# Altium integrated library Linear Technology Power Management Hot Swap Controllers.IntLib: 992 symbols (part 89 of 93)
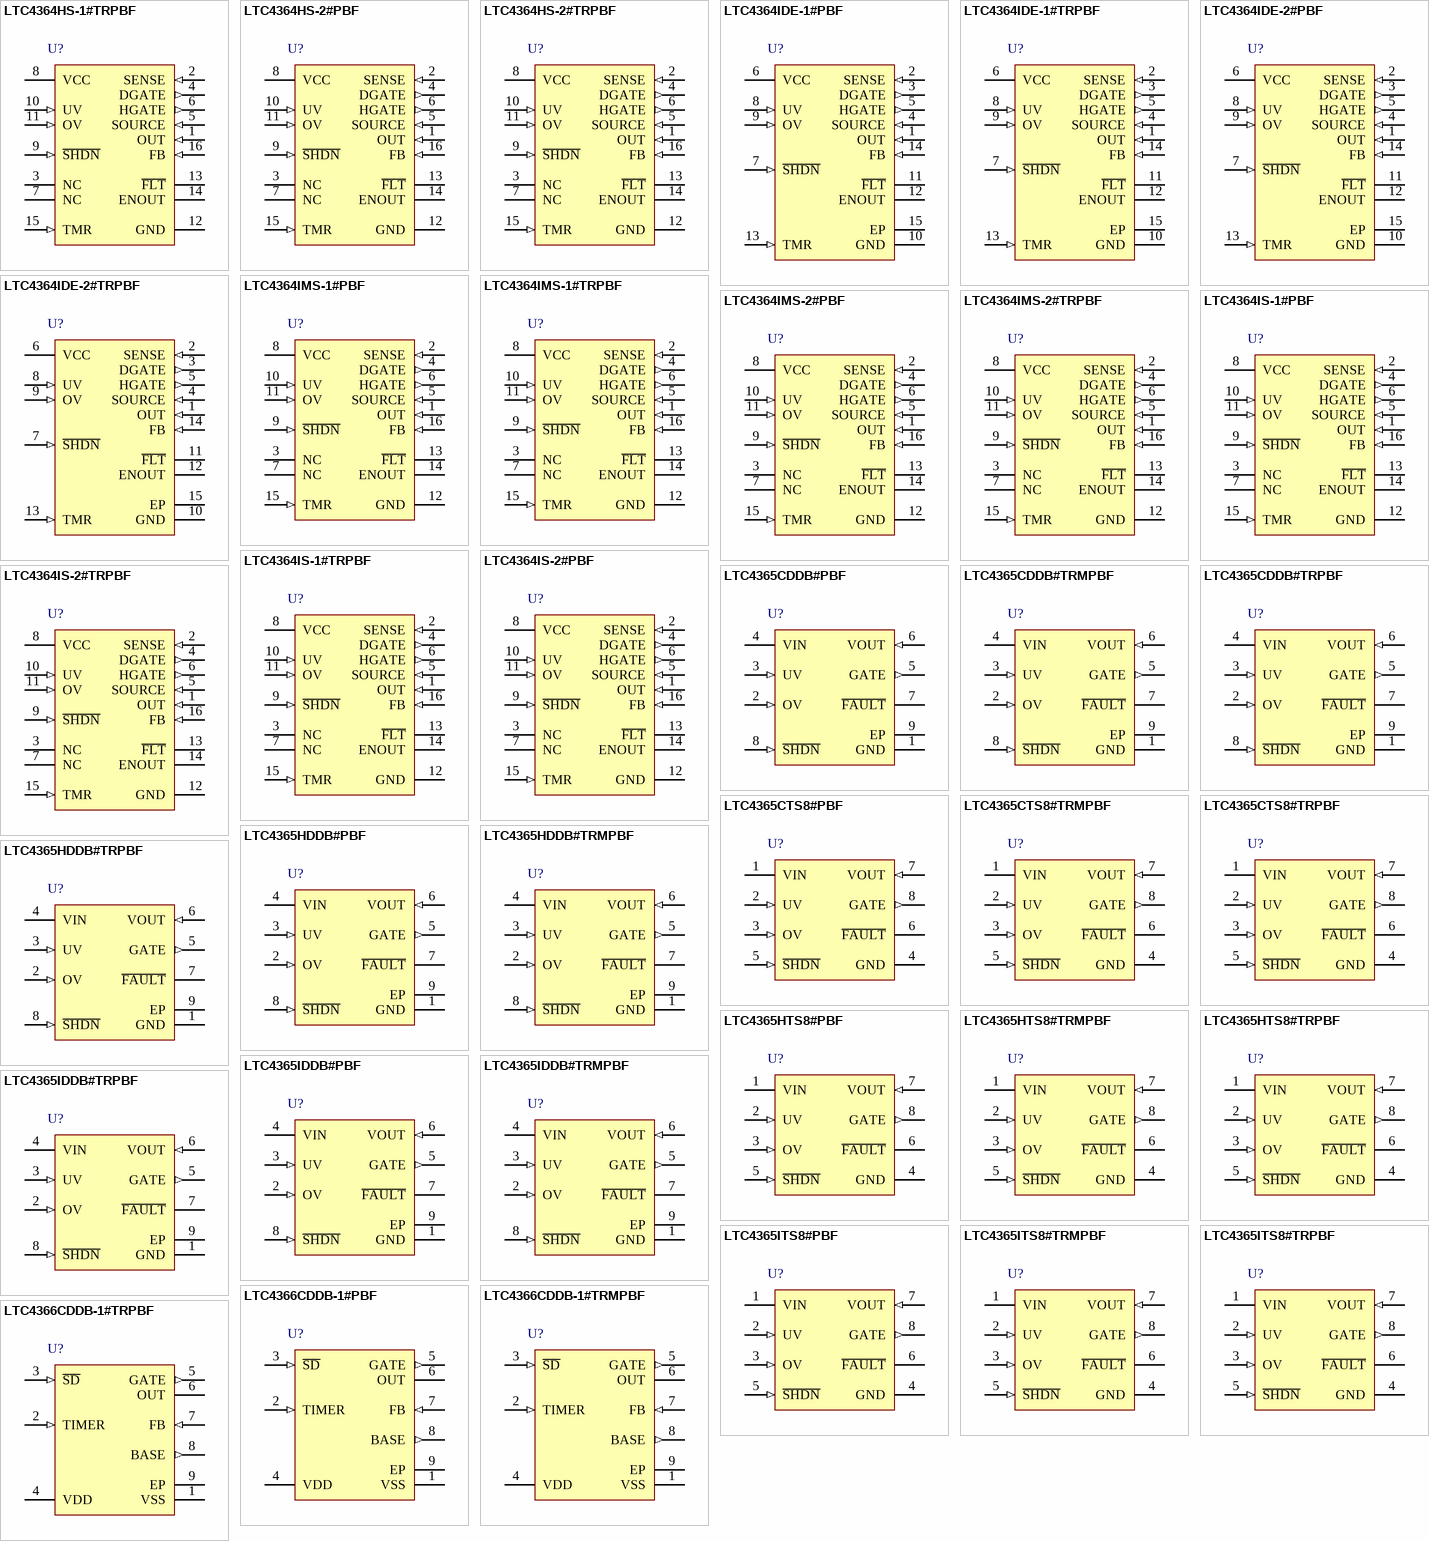
[diagram p125: symbols LTC4364HS-1#TRPBF to LTC4366CDDB-1#TRPBF]

## LTC4364IS-1#TRPBF
designator U?
Surge Stopper with Ideal Diode, 4 to 80 V Vin, 16-pin SOP (S-16), -40 to 85 degC, Pb-Free, Tape and Reel; Manufacturer: Linear Technology; PartNumber: LTC4364IS-1#TRPBF; Circuit Breaker Accuracy(%): 10; Circuit Breaker Threshold: 50 mV; Circuit Breakers(#): 1; Extended Temp: C, I, H; Fast Comparator: no; Vin Range: 4 to 80 V; PackageVersion: Rev. G, 05/2012; PackageReference: S-16; PackageDescription: 16-Pin Plastic Small Outline, Body 9.9 x 3.9 mm, Pitch 1.27 mm; Supplier 1: Digi-Key; Supplier Part Number 1: LTC4364IS-1#TRPBF-ND; Supplier 2: Newark; Supplier Part Number 2: 27W9492; Packing: Tape and Reel; Power Good: no; RoHS: TRUE; Mounting Technology: Surface Mount; ComponentLink1Description: Manufacturer URL; ComponentLink1URL: http://www.linear.com/; ComponentLink2Description: Datasheet; ComponentLink2URL: http://cds.linear.com/docs/en/datasheet/436412f.pdf; ComponentLink3Description: Package Specification; ComponentLink3URL: http://cds.linear.com/docs/en/packaging/S16%2005-08-1610%20Rev%20G.pdf
footprint LT-S-16_N (SOP, 16-Leads, Body 10x4mm, Pitch 1.27mm, IPC Medium Density)
footprint LT-S-16_L (SOP, 16-Leads, Body 10x4mm, Pitch 1.27mm, IPC High Density)
footprint LT-S-16_M (SOP, 16-Leads, Body 10x4mm, Pitch 1.27mm, IPC Low Density)
pins: 1 OUT (in) "Output Voltage Sense Input. This pin senses the voltage at the drain of the external N-channel MOSFET connected to the DGATE pin. The voltage difference between VCC and OUT sets the fault timer current. When this difference (See Datasheet)", 2 SENSE (in) "Current Sense Input. Connect this pin to the input side of the current sense resistor. The current limit circuit controls the HGATE pin to limit the sense voltage between the SENSE and OUT pins to 50mV if OUT is above 2.5V. (See Datasheet)", 3 NC, 4 DGATE (out) "Diode Controller Gate Drive Output. When the load current creates more than 30mV of drop across the MOSFET, the DGATE pin is pulled high by an internal charge pump current source and clamped to 12V above the SOURCE pin. When (See Datasheet)", 5 SOURCE (in) "Common Source Input and Gate Drive Return. Connect this pin directly to the sources of the external back-to-back N-channel MOSFETs. SOURCE is the anode of the ideal diode and the voltage sensed between this pin and the SENSE (See Datasheet)", 6 HGATE (out) "Surge Stopper Gate Drive Output. The HGATE pin is pulled up by an internal charge pump current source and clamped to 12V above the SOURCE pin. Both voltage and current amplifiers control the HGATE pin to regulate the output (See Datasheet)", 7 NC, 8 VCC (power) "Positive Supply Voltage Input. The positive supply input ranges from 4V to 80V for normal operation. It can also be pulled below ground potential by up to 40V during a reverse battery condition, without damaging the part. (See Datasheet)", 9 ~{SHDN} (in) "Shutdown Control Input. Pulling the S\H\D\N\ pin below 0.5V shuts off the LTC4364 and reduces the VCC pin current to 10uA. Pull this pin above 2.2V or disconnect it to allow the internal current source to turn the part back (See Datasheet)", 10 UV (in) "Undervoltage Comparator Input. When the UV pin falls below its 1.25V threshold, the HGATE pin is pulled down with a 1mA current. When the UV pin rises above 1.25V plus the hysteresis, the HGATE pin is pulled up by the (See Datasheet)", 11 OV (in) "Overvoltage Comparator Input. When OV is above its threshold of 1.25V, the fault retry function is inhibited. When OV falls below its threshold, the HGATE pin is allowed to turn back on when fault conditions are cleared. At (See Datasheet)", 12 GND (power) "Device Ground.", 13 ~{FLT} (hiz) "Fault Output. An open-drain output that pulls low after the TMR pin reaches the warning threshold of 1.25V. It indicates the pass device controlled by the HGATE pin is about to turn off because either the supply voltage has (See Datasheet)", 14 ENOUT (hiz) "Enable Output. An open-drain output that goes high impedance when the voltage at the OUT pin is above (VCC - 0.7V), indicating the external MOSFETs are fully on. The state of the pin is latched and resets when the OUT pin (See Datasheet)", 15 TMR (in) "Fault Timer Input. Connect a capacitor between this pin and ground to set the times for fault warning, fault turn-off, and cool down periods. Either voltage regulation or current regulation starts pulling up the TMR pin. The (See Datasheet)", 16 FB (in) "Voltage Regulator Feedback Input. Connect this pin to the resistive divider connected between the OUT pin and ground. During an overvoltage condition, the HGATE pin is controlled to maintain 1.25V at the FB pin. Connect to (See Datasheet)"

## LTC4364IS-2#PBF
designator U?
Surge Stopper with Ideal Diode, 4 to 80 V Vin, 16-pin SOP (S-16), -40 to 85 degC, Pb-Free; Manufacturer: Linear Technology; PartNumber: LTC4364IS-2#PBF; Active Limiting: yes; Circuit Breaker Accuracy(%): 10; Circuit Breaker Threshold: 50 mV; Circuit Breakers(#): 1; Extended Temp: C, I, H; Fast Comparator: no; Vin Range: 4 to 80 V; PackageVersion: Rev. G, 05/2012; PackageReference: S-16; PackageDescription: 16-Pin Plastic Small Outline, Body 9.9 x 3.9 mm, Pitch 1.27 mm; Supplier 1: Digi-Key; Supplier Part Number 1: LTC4364IS-2#PBF-ND; Supplier 2: Farnell; Supplier Part Number 2: 2215154; Supplier 3: Newark; Supplier Part Number 3: 27W9493; Power Good: no; RoHS: TRUE; Mounting Technology: Surface Mount; ComponentLink1Description: Manufacturer URL; ComponentLink1URL: http://www.linear.com/; ComponentLink2Description: Datasheet; ComponentLink2URL: http://cds.linear.com/docs/en/datasheet/436412f.pdf; ComponentLink3Description: Package Specification; ComponentLink3URL: http://cds.linear.com/docs/en/packaging/S16%2005-08-1610%20Rev%20G.pdf
footprint LT-S-16_N (SOP, 16-Leads, Body 10x4mm, Pitch 1.27mm, IPC Medium Density)
footprint LT-S-16_L (SOP, 16-Leads, Body 10x4mm, Pitch 1.27mm, IPC High Density)
footprint LT-S-16_M (SOP, 16-Leads, Body 10x4mm, Pitch 1.27mm, IPC Low Density)
pins: 1 OUT (in) "Output Voltage Sense Input. This pin senses the voltage at the drain of the external N-channel MOSFET connected to the DGATE pin. The voltage difference between VCC and OUT sets the fault timer current. When this difference (See Datasheet)", 2 SENSE (in) "Current Sense Input. Connect this pin to the input side of the current sense resistor. The current limit circuit controls the HGATE pin to limit the sense voltage between the SENSE and OUT pins to 50mV if OUT is above 2.5V. (See Datasheet)", 3 NC, 4 DGATE (out) "Diode Controller Gate Drive Output. When the load current creates more than 30mV of drop across the MOSFET, the DGATE pin is pulled high by an internal charge pump current source and clamped to 12V above the SOURCE pin. When (See Datasheet)", 5 SOURCE (in) "Common Source Input and Gate Drive Return. Connect this pin directly to the sources of the external back-to-back N-channel MOSFETs. SOURCE is the anode of the ideal diode and the voltage sensed between this pin and the SENSE (See Datasheet)", 6 HGATE (out) "Surge Stopper Gate Drive Output. The HGATE pin is pulled up by an internal charge pump current source and clamped to 12V above the SOURCE pin. Both voltage and current amplifiers control the HGATE pin to regulate the output (See Datasheet)", 7 NC, 8 VCC (power) "Positive Supply Voltage Input. The positive supply input ranges from 4V to 80V for normal operation. It can also be pulled below ground potential by up to 40V during a reverse battery condition, without damaging the part. (See Datasheet)", 9 ~{SHDN} (in) "Shutdown Control Input. Pulling the S\H\D\N\ pin below 0.5V shuts off the LTC4364 and reduces the VCC pin current to 10uA. Pull this pin above 2.2V or disconnect it to allow the internal current source to turn the part back (See Datasheet)", 10 UV (in) "Undervoltage Comparator Input. When the UV pin falls below its 1.25V threshold, the HGATE pin is pulled down with a 1mA current. When the UV pin rises above 1.25V plus the hysteresis, the HGATE pin is pulled up by the (See Datasheet)", 11 OV (in) "Overvoltage Comparator Input. When OV is above its threshold of 1.25V, the fault retry function is inhibited. When OV falls below its threshold, the HGATE pin is allowed to turn back on when fault conditions are cleared. At (See Datasheet)", 12 GND (power) "Device Ground.", 13 ~{FLT} (hiz) "Fault Output. An open-drain output that pulls low after the TMR pin reaches the warning threshold of 1.25V. It indicates the pass device controlled by the HGATE pin is about to turn off because either the supply voltage has (See Datasheet)", 14 ENOUT (hiz) "Enable Output. An open-drain output that goes high impedance when the voltage at the OUT pin is above (VCC - 0.7V), indicating the external MOSFETs are fully on. The state of the pin is latched and resets when the OUT pin (See Datasheet)", 15 TMR (in) "Fault Timer Input. Connect a capacitor between this pin and ground to set the times for fault warning, fault turn-off, and cool down periods. Either voltage regulation or current regulation starts pulling up the TMR pin. The (See Datasheet)", 16 FB (in) "Voltage Regulator Feedback Input. Connect this pin to the resistive divider connected between the OUT pin and ground. During an overvoltage condition, the HGATE pin is controlled to maintain 1.25V at the FB pin. Connect to (See Datasheet)"

## LTC4364IS-2#TRPBF
designator U?
Surge Stopper with Ideal Diode, 4 to 80 V Vin, 16-pin SOP (S-16), -40 to 85 degC, Pb-Free, Tape and Reel; Manufacturer: Linear Technology; PartNumber: LTC4364IS-2#TRPBF; Circuit Breaker Accuracy(%): 10; Circuit Breaker Threshold: 50 mV; Circuit Breakers(#): 1; Extended Temp: C, I, H; Fast Comparator: no; Vin Range: 4 to 80 V; PackageVersion: Rev. G, 05/2012; PackageReference: S-16; PackageDescription: 16-Pin Plastic Small Outline, Body 9.9 x 3.9 mm, Pitch 1.27 mm; Supplier 1: Digi-Key; Supplier Part Number 1: LTC4364IS-2#TRPBF-ND; Supplier 2: Newark; Supplier Part Number 2: 27W9494; Packing: Tape and Reel; Power Good: no; RoHS: TRUE; Mounting Technology: Surface Mount; ComponentLink1Description: Manufacturer URL; ComponentLink1URL: http://www.linear.com/; ComponentLink2Description: Datasheet; ComponentLink2URL: http://cds.linear.com/docs/en/datasheet/436412f.pdf; ComponentLink3Description: Package Specification; ComponentLink3URL: http://cds.linear.com/docs/en/packaging/S16%2005-08-1610%20Rev%20G.pdf
footprint LT-S-16_N (SOP, 16-Leads, Body 10x4mm, Pitch 1.27mm, IPC Medium Density)
footprint LT-S-16_L (SOP, 16-Leads, Body 10x4mm, Pitch 1.27mm, IPC High Density)
footprint LT-S-16_M (SOP, 16-Leads, Body 10x4mm, Pitch 1.27mm, IPC Low Density)
pins: 1 OUT (in) "Output Voltage Sense Input. This pin senses the voltage at the drain of the external N-channel MOSFET connected to the DGATE pin. The voltage difference between VCC and OUT sets the fault timer current. When this difference (See Datasheet)", 2 SENSE (in) "Current Sense Input. Connect this pin to the input side of the current sense resistor. The current limit circuit controls the HGATE pin to limit the sense voltage between the SENSE and OUT pins to 50mV if OUT is above 2.5V. (See Datasheet)", 3 NC, 4 DGATE (out) "Diode Controller Gate Drive Output. When the load current creates more than 30mV of drop across the MOSFET, the DGATE pin is pulled high by an internal charge pump current source and clamped to 12V above the SOURCE pin. When (See Datasheet)", 5 SOURCE (in) "Common Source Input and Gate Drive Return. Connect this pin directly to the sources of the external back-to-back N-channel MOSFETs. SOURCE is the anode of the ideal diode and the voltage sensed between this pin and the SENSE (See Datasheet)", 6 HGATE (out) "Surge Stopper Gate Drive Output. The HGATE pin is pulled up by an internal charge pump current source and clamped to 12V above the SOURCE pin. Both voltage and current amplifiers control the HGATE pin to regulate the output (See Datasheet)", 7 NC, 8 VCC (power) "Positive Supply Voltage Input. The positive supply input ranges from 4V to 80V for normal operation. It can also be pulled below ground potential by up to 40V during a reverse battery condition, without damaging the part. (See Datasheet)", 9 ~{SHDN} (in) "Shutdown Control Input. Pulling the S\H\D\N\ pin below 0.5V shuts off the LTC4364 and reduces the VCC pin current to 10uA. Pull this pin above 2.2V or disconnect it to allow the internal current source to turn the part back (See Datasheet)", 10 UV (in) "Undervoltage Comparator Input. When the UV pin falls below its 1.25V threshold, the HGATE pin is pulled down with a 1mA current. When the UV pin rises above 1.25V plus the hysteresis, the HGATE pin is pulled up by the (See Datasheet)", 11 OV (in) "Overvoltage Comparator Input. When OV is above its threshold of 1.25V, the fault retry function is inhibited. When OV falls below its threshold, the HGATE pin is allowed to turn back on when fault conditions are cleared. At (See Datasheet)", 12 GND (power) "Device Ground.", 13 ~{FLT} (hiz) "Fault Output. An open-drain output that pulls low after the TMR pin reaches the warning threshold of 1.25V. It indicates the pass device controlled by the HGATE pin is about to turn off because either the supply voltage has (See Datasheet)", 14 ENOUT (hiz) "Enable Output. An open-drain output that goes high impedance when the voltage at the OUT pin is above (VCC - 0.7V), indicating the external MOSFETs are fully on. The state of the pin is latched and resets when the OUT pin (See Datasheet)", 15 TMR (in) "Fault Timer Input. Connect a capacitor between this pin and ground to set the times for fault warning, fault turn-off, and cool down periods. Either voltage regulation or current regulation starts pulling up the TMR pin. The (See Datasheet)", 16 FB (in) "Voltage Regulator Feedback Input. Connect this pin to the resistive divider connected between the OUT pin and ground. During an overvoltage condition, the HGATE pin is controlled to maintain 1.25V at the FB pin. Connect to (See Datasheet)"

## LTC4365CDDB#PBF
designator U?
UV, OV and Reverse Supply Protection Controller, 2.5 to 34 V Vin, 8-pin SON (DDB-8), 0 to 70 degC, Pb-Free; Manufacturer: Linear Technology; PartNumber: LTC4365CDDB#PBF; Active Limiting: no; Circuit Breakers(#): 1; Extended Temp: C, I, H; Fault: yes; PackageVersion: Rev. B, 06/2010; PackageReference: DDB-8; PackageDescription: 8-Pin Plastic DFN, Body 3 x 2 mm, Pitch 0.5 mm; Supplier 1: Farnell; Supplier Part Number 1: 2295347; Supplier 2: Newark; Supplier Part Number 2: 78T3383; Fast Comparator: no; Foldback: no; Power Good: no; Reset: no; RoHS: TRUE; Vin Range: 2.5 to 34 V; Mounting Technology: Surface Mount; Code_JEDEC: MO-229; ComponentLink1Description: Manufacturer URL; ComponentLink1URL: http://www.linear.com/; ComponentLink2Description: Datasheet; ComponentLink2URL: http://cds.linear.com/docs/en/datasheet/4365f.pdf; ComponentLink3Description: Package Specification; ComponentLink3URL: http://cds.linear.com/docs/en/packaging/DFN_8_05-08-1702.pdf
footprint LT-DDB-8_V (SON, 8-Leads, Body 3x2mm, Pitch 0.5mm, Thermal Pad 2.2x0.61mm)
pins: 1 GND (power) "Device Ground.", 2 OV (in) "Overvoltage Comparator Input. Connect this pin to an external resistive divider to set the desired VIN overvoltage fault threshold. Input to an accurate, fast (1us) comparator with a 0.5V rising threshold and 25mV of (See Datasheet)", 3 UV (in) "Undervoltage Comparator Input. Connect this pin to an external resistive divider to set the desired VIN undervoltage fault threshold. Input to an accurate, fast (1us) comparator with a 0.5V falling threshold and 25mV of (See Datasheet)", 4 VIN (power) "Power Supply Input. Maximum protection range: -40V to 60V. Operating range: 2.5V to 34V.", 5 GATE (out) "Gate Drive Output for External N-channel MOSFETs. An internal charge pump provides 20uA of pull-up current and up to 9.8V of enhancement to the gate of an external N-channel MOSFET When turned off, GATE is pulled just below (See Datasheet)", 6 VOUT (in) "Output Voltage Sense Input. This pin senses the voltage at the output side of the external N-channel MOSFET. The GATE charge pump voltage is referenced to VOUT. It is used as the charge pump input when VOUT is greater than (See Datasheet)", 7 ~{FAULT} (oc) "Fault Indication Output. This high voltage open drain output is pulled low if UV is below its monitor threshold, if OV is above its monitor threshold, if S\H\D\N\ is low, or if VIN has not risen above VIN(UVLO).", 8 ~{SHDN} (in) "Shutdown Control Input. S\H\D\N\ high enables the GATE charge pump which in turn enhances the gate of an external N-channel MOSFET. A low on S\H\D\N\ generates a pull down on the GATE output with a 90uA current sink and (See Datasheet)", 9 EP (power) "Connect to device ground"

## LTC4365CDDB#TRMPBF
designator U?
UV, OV and Reverse Supply Protection Controller, 2.5 to 34 V Vin, 8-pin SON (DDB-8), 0 to 70 degC, Pb-Free, Mini Tape and Reel; Manufacturer: Linear Technology; PartNumber: LTC4365CDDB#TRMPBF; Active Limiting: no; Circuit Breakers(#): 1; Extended Temp: C, I, H; Fault: yes; PackageVersion: Rev. B, 06/2010; PackageReference: DDB-8; PackageDescription: 8-Pin Plastic DFN, Body 3 x 2 mm, Pitch 0.5 mm; Supplier 1: Digi-Key; Supplier Part Number 1: LTC4365CDDB#TRMPBFTR-ND; Supplier 2: Digi-Key; Supplier Part Number 2: LTC4365CDDB#TRMPBFCT-ND; Supplier 3: Digi-Key; Supplier Part Number 3: LTC4365CDDB#TRMPBFDKR-ND; Fast Comparator: no; Foldback: no; Packing: Mini Tape and Reel; Power Good: no; Reset: no; RoHS: TRUE; Vin Range: 2.5 to 34 V; Mounting Technology: Surface Mount; Code_JEDEC: MO-229; ComponentLink1Description: Manufacturer URL; ComponentLink1URL: http://www.linear.com/; ComponentLink2Description: Datasheet; ComponentLink2URL: http://cds.linear.com/docs/en/datasheet/4365f.pdf; ComponentLink3Description: Package Specification; ComponentLink3URL: http://cds.linear.com/docs/en/packaging/DFN_8_05-08-1702.pdf
footprint LT-DDB-8_V (SON, 8-Leads, Body 3x2mm, Pitch 0.5mm, Thermal Pad 2.2x0.61mm)
pins: 1 GND (power) "Device Ground.", 2 OV (in) "Overvoltage Comparator Input. Connect this pin to an external resistive divider to set the desired VIN overvoltage fault threshold. Input to an accurate, fast (1us) comparator with a 0.5V rising threshold and 25mV of (See Datasheet)", 3 UV (in) "Undervoltage Comparator Input. Connect this pin to an external resistive divider to set the desired VIN undervoltage fault threshold. Input to an accurate, fast (1us) comparator with a 0.5V falling threshold and 25mV of (See Datasheet)", 4 VIN (power) "Power Supply Input. Maximum protection range: -40V to 60V. Operating range: 2.5V to 34V.", 5 GATE (out) "Gate Drive Output for External N-channel MOSFETs. An internal charge pump provides 20uA of pull-up current and up to 9.8V of enhancement to the gate of an external N-channel MOSFET When turned off, GATE is pulled just below (See Datasheet)", 6 VOUT (in) "Output Voltage Sense Input. This pin senses the voltage at the output side of the external N-channel MOSFET. The GATE charge pump voltage is referenced to VOUT. It is used as the charge pump input when VOUT is greater than (See Datasheet)", 7 ~{FAULT} (oc) "Fault Indication Output. This high voltage open drain output is pulled low if UV is below its monitor threshold, if OV is above its monitor threshold, if S\H\D\N\ is low, or if VIN has not risen above VIN(UVLO).", 8 ~{SHDN} (in) "Shutdown Control Input. S\H\D\N\ high enables the GATE charge pump which in turn enhances the gate of an external N-channel MOSFET. A low on S\H\D\N\ generates a pull down on the GATE output with a 90uA current sink and (See Datasheet)", 9 EP (power) "Connect to device ground"

## LTC4365CDDB#TRPBF
designator U?
UV, OV and Reverse Supply Protection Controller, 2.5 to 34 V Vin, 8-pin SON (DDB-8), 0 to 70 degC, Pb-Free, Tape and Reel; Manufacturer: Linear Technology; PartNumber: LTC4365CDDB#TRPBF; Active Limiting: no; Circuit Breakers(#): 1; Extended Temp: C, I, H; Fault: yes; PackageVersion: Rev. B, 06/2010; PackageReference: DDB-8; PackageDescription: 8-Pin Plastic DFN, Body 3 x 2 mm, Pitch 0.5 mm; Supplier 1: Digi-Key; Supplier Part Number 1: LTC4365CDDB#TRPBF-ND; Fast Comparator: no; Foldback: no; Packing: Tape and Reel; Power Good: no; Reset: no; RoHS: TRUE; Vin Range: 2.5 to 34 V; Mounting Technology: Surface Mount; Code_JEDEC: MO-229; ComponentLink1Description: Manufacturer URL; ComponentLink1URL: http://www.linear.com/; ComponentLink2Description: Datasheet; ComponentLink2URL: http://cds.linear.com/docs/en/datasheet/4365f.pdf; ComponentLink3Description: Package Specification; ComponentLink3URL: http://cds.linear.com/docs/en/packaging/DFN_8_05-08-1702.pdf
footprint LT-DDB-8_V (SON, 8-Leads, Body 3x2mm, Pitch 0.5mm, Thermal Pad 2.2x0.61mm)
pins: 1 GND (power) "Device Ground.", 2 OV (in) "Overvoltage Comparator Input. Connect this pin to an external resistive divider to set the desired VIN overvoltage fault threshold. Input to an accurate, fast (1us) comparator with a 0.5V rising threshold and 25mV of (See Datasheet)", 3 UV (in) "Undervoltage Comparator Input. Connect this pin to an external resistive divider to set the desired VIN undervoltage fault threshold. Input to an accurate, fast (1us) comparator with a 0.5V falling threshold and 25mV of (See Datasheet)", 4 VIN (power) "Power Supply Input. Maximum protection range: -40V to 60V. Operating range: 2.5V to 34V.", 5 GATE (out) "Gate Drive Output for External N-channel MOSFETs. An internal charge pump provides 20uA of pull-up current and up to 9.8V of enhancement to the gate of an external N-channel MOSFET When turned off, GATE is pulled just below (See Datasheet)", 6 VOUT (in) "Output Voltage Sense Input. This pin senses the voltage at the output side of the external N-channel MOSFET. The GATE charge pump voltage is referenced to VOUT. It is used as the charge pump input when VOUT is greater than (See Datasheet)", 7 ~{FAULT} (oc) "Fault Indication Output. This high voltage open drain output is pulled low if UV is below its monitor threshold, if OV is above its monitor threshold, if S\H\D\N\ is low, or if VIN has not risen above VIN(UVLO).", 8 ~{SHDN} (in) "Shutdown Control Input. S\H\D\N\ high enables the GATE charge pump which in turn enhances the gate of an external N-channel MOSFET. A low on S\H\D\N\ generates a pull down on the GATE output with a 90uA current sink and (See Datasheet)", 9 EP (power) "Connect to device ground"

## LTC4365CTS8#PBF
designator U?
UV, OV and Reverse Supply Protection Controller, 2.5 to 34 V Vin, 8-pin SOT23 (TS8-8), 0 to 70 degC, Pb-Free; Manufacturer: Linear Technology; PartNumber: LTC4365CTS8#PBF; Active Limiting: no; Circuit Breakers(#): 1; Extended Temp: C, I, H; Fault: yes; PackageVersion: Rev. A, 08/2010; PackageReference: TS8-8; PackageDescription: 8-Pin Plastic TSOT-23, Body 2.9 x 1.63 mm, Pitch 0.65 mm; Supplier 1: Newark; Supplier Part Number 1: 78T3384; Fast Comparator: no; Foldback: no; Power Good: no; Reset: no; RoHS: TRUE; Vin Range: 2.5 to 34 V; Mounting Technology: Surface Mount; Code_JEDEC: MO-193; ComponentLink1Description: Manufacturer URL; ComponentLink1URL: http://www.linear.com/; ComponentLink2Description: Datasheet; ComponentLink2URL: http://cds.linear.com/docs/en/datasheet/4365f.pdf; ComponentLink3Description: Package Specification; ComponentLink3URL: http://cds.linear.com/docs/en/packaging/SOT_8_05-08-1637.pdf
footprint LT-TS8-8-TSOT-23_V (SOT23, 8-Leads, Body 2.9x1.75mm, Pitch 0.65mm)
pins: 1 VIN (power) "Power Supply Input. Maximum protection range: -40V to 60V. Operating range: 2.5V to 34V.", 2 UV (in) "Undervoltage Comparator Input. Connect this pin to an external resistive divider to set the desired VIN undervoltage fault threshold. Input to an accurate, fast (1us) comparator with a 0.5V falling threshold and 25mV of (See Datasheet)", 3 OV (in) "Overvoltage Comparator Input. Connect this pin to an external resistive divider to set the desired VIN overvoltage fault threshold. Input to an accurate, fast (1us) comparator with a 0.5V rising threshold and 25mV of (See Datasheet)", 4 GND (power) "Device Ground", 5 ~{SHDN} (in) "Shutdown Control Input. S\H\D\N\ high enables the GATE charge pump which in turn enhances the gate of an external N-channel MOSFET. A low on S\H\D\N\ generates a pull down on the GATE output with a 90uA current sink and (See Datasheet)", 6 ~{FAULT} (oc) "Fault Indication Output. This high voltage open drain output is pulled low if UV is below its monitor threshold, if OV is above its monitor threshold, if S\H\D\N\ is low, or if VIN has not risen above VIN(UVLO).", 7 VOUT (in) "Output Voltage Sense Input. This pin senses the voltage at the output side of the external N-channel MOSFET. The GATE charge pump voltage is referenced to VOUT. It is used as the charge pump input when VOUT is greater than (See Datasheet)", 8 GATE (out) "Gate Drive Output for External N-channel MOSFETs. An internal charge pump provides 20uA of pull-up current and up to 9.8V of enhancement to the gate of an external N-channel MOSFET When turned off, GATE is pulled just below (See Datasheet)"

## LTC4365CTS8#TRMPBF
designator U?
UV, OV and Reverse Supply Protection Controller, 2.5 to 34 V Vin, 8-pin SOT23 (TS8-8), 0 to 70 degC, Pb-Free, Mini Tape and Reel; Manufacturer: Linear Technology; PartNumber: LTC4365CTS8#TRMPBF; Active Limiting: no; Circuit Breakers(#): 1; Extended Temp: C, I, H; Fault: yes; PackageVersion: Rev. A, 08/2010; PackageReference: TS8-8; PackageDescription: 8-Pin Plastic TSOT-23, Body 2.9 x 1.63 mm, Pitch 0.65 mm; Supplier 1: Digi-Key; Supplier Part Number 1: LTC4365CTS8#TRMPBFTR-ND; Supplier 2: Digi-Key; Supplier Part Number 2: LTC4365CTS8#TRMPBFCT-ND; Supplier 3: Digi-Key; Supplier Part Number 3: LTC4365CTS8#TRMPBFDKR-ND; Supplier 4: Farnell; Supplier Part Number 4: 1847455; Supplier 5: Newark; Supplier Part Number 5: 24T2682; Fast Comparator: no; Foldback: no; Packing: Mini Tape and Reel; Power Good: no; Reset: no; RoHS: TRUE; Vin Range: 2.5 to 34 V; Mounting Technology: Surface Mount; Code_JEDEC: MO-193; ComponentLink1Description: Manufacturer URL; ComponentLink1URL: http://www.linear.com/; ComponentLink2Description: Datasheet; ComponentLink2URL: http://cds.linear.com/docs/en/datasheet/4365f.pdf; ComponentLink3Description: Package Specification; ComponentLink3URL: http://cds.linear.com/docs/en/packaging/SOT_8_05-08-1637.pdf
footprint LT-TS8-8-TSOT-23_V (SOT23, 8-Leads, Body 2.9x1.75mm, Pitch 0.65mm)
pins: 1 VIN (power) "Power Supply Input. Maximum protection range: -40V to 60V. Operating range: 2.5V to 34V.", 2 UV (in) "Undervoltage Comparator Input. Connect this pin to an external resistive divider to set the desired VIN undervoltage fault threshold. Input to an accurate, fast (1us) comparator with a 0.5V falling threshold and 25mV of (See Datasheet)", 3 OV (in) "Overvoltage Comparator Input. Connect this pin to an external resistive divider to set the desired VIN overvoltage fault threshold. Input to an accurate, fast (1us) comparator with a 0.5V rising threshold and 25mV of (See Datasheet)", 4 GND (power) "Device Ground", 5 ~{SHDN} (in) "Shutdown Control Input. S\H\D\N\ high enables the GATE charge pump which in turn enhances the gate of an external N-channel MOSFET. A low on S\H\D\N\ generates a pull down on the GATE output with a 90uA current sink and (See Datasheet)", 6 ~{FAULT} (oc) "Fault Indication Output. This high voltage open drain output is pulled low if UV is below its monitor threshold, if OV is above its monitor threshold, if S\H\D\N\ is low, or if VIN has not risen above VIN(UVLO).", 7 VOUT (in) "Output Voltage Sense Input. This pin senses the voltage at the output side of the external N-channel MOSFET. The GATE charge pump voltage is referenced to VOUT. It is used as the charge pump input when VOUT is greater than (See Datasheet)", 8 GATE (out) "Gate Drive Output for External N-channel MOSFETs. An internal charge pump provides 20uA of pull-up current and up to 9.8V of enhancement to the gate of an external N-channel MOSFET When turned off, GATE is pulled just below (See Datasheet)"

## LTC4365CTS8#TRPBF
designator U?
UV, OV and Reverse Supply Protection Controller, 2.5 to 34 V Vin, 8-pin SOT23 (TS8-8), 0 to 70 degC, Pb-Free, Tape and Reel; Manufacturer: Linear Technology; PartNumber: LTC4365CTS8#TRPBF; Active Limiting: no; Circuit Breakers(#): 1; Extended Temp: C, I, H; Fault: yes; PackageVersion: Rev. A, 08/2010; PackageReference: TS8-8; PackageDescription: 8-Pin Plastic TSOT-23, Body 2.9 x 1.63 mm, Pitch 0.65 mm; Supplier 1: Digi-Key; Supplier Part Number 1: LTC4365CTS8#TRPBF-ND; Fast Comparator: no; Foldback: no; Packing: Tape and Reel; Power Good: no; Reset: no; RoHS: TRUE; Vin Range: 2.5 to 34 V; Mounting Technology: Surface Mount; Code_JEDEC: MO-193; ComponentLink1Description: Manufacturer URL; ComponentLink1URL: http://www.linear.com/; ComponentLink2Description: Datasheet; ComponentLink2URL: http://cds.linear.com/docs/en/datasheet/4365f.pdf; ComponentLink3Description: Package Specification; ComponentLink3URL: http://cds.linear.com/docs/en/packaging/SOT_8_05-08-1637.pdf
footprint LT-TS8-8-TSOT-23_V (SOT23, 8-Leads, Body 2.9x1.75mm, Pitch 0.65mm)
pins: 1 VIN (power) "Power Supply Input. Maximum protection range: -40V to 60V. Operating range: 2.5V to 34V.", 2 UV (in) "Undervoltage Comparator Input. Connect this pin to an external resistive divider to set the desired VIN undervoltage fault threshold. Input to an accurate, fast (1us) comparator with a 0.5V falling threshold and 25mV of (See Datasheet)", 3 OV (in) "Overvoltage Comparator Input. Connect this pin to an external resistive divider to set the desired VIN overvoltage fault threshold. Input to an accurate, fast (1us) comparator with a 0.5V rising threshold and 25mV of (See Datasheet)", 4 GND (power) "Device Ground", 5 ~{SHDN} (in) "Shutdown Control Input. S\H\D\N\ high enables the GATE charge pump which in turn enhances the gate of an external N-channel MOSFET. A low on S\H\D\N\ generates a pull down on the GATE output with a 90uA current sink and (See Datasheet)", 6 ~{FAULT} (oc) "Fault Indication Output. This high voltage open drain output is pulled low if UV is below its monitor threshold, if OV is above its monitor threshold, if S\H\D\N\ is low, or if VIN has not risen above VIN(UVLO).", 7 VOUT (in) "Output Voltage Sense Input. This pin senses the voltage at the output side of the external N-channel MOSFET. The GATE charge pump voltage is referenced to VOUT. It is used as the charge pump input when VOUT is greater than (See Datasheet)", 8 GATE (out) "Gate Drive Output for External N-channel MOSFETs. An internal charge pump provides 20uA of pull-up current and up to 9.8V of enhancement to the gate of an external N-channel MOSFET When turned off, GATE is pulled just below (See Datasheet)"

## LTC4365HDDB#PBF
designator U?
UV, OV and Reverse Supply Protection Controller, 2.5 to 34 V Vin, 8-pin SON (DDB-8), -40 to 125 degC, Pb-Free; Manufacturer: Linear Technology; PartNumber: LTC4365HDDB#PBF; Active Limiting: no; Circuit Breakers(#): 1; Extended Temp: C, I, H; Fault: yes; PackageVersion: Rev. B, 06/2010; PackageReference: DDB-8; PackageDescription: 8-Pin Plastic DFN, Body 3 x 2 mm, Pitch 0.5 mm; Supplier 1: Farnell; Supplier Part Number 1: 2308157; Supplier 2: Newark; Supplier Part Number 2: 78T3385; Fast Comparator: no; Foldback: no; Power Good: no; Reset: no; RoHS: TRUE; Vin Range: 2.5 to 34 V; Mounting Technology: Surface Mount; Code_JEDEC: MO-229; ComponentLink1Description: Manufacturer URL; ComponentLink1URL: http://www.linear.com/; ComponentLink2Description: Datasheet; ComponentLink2URL: http://cds.linear.com/docs/en/datasheet/4365f.pdf; ComponentLink3Description: Package Specification; ComponentLink3URL: http://cds.linear.com/docs/en/packaging/DFN_8_05-08-1702.pdf
footprint LT-DDB-8_V (SON, 8-Leads, Body 3x2mm, Pitch 0.5mm, Thermal Pad 2.2x0.61mm)
pins: 1 GND (power) "Device Ground.", 2 OV (in) "Overvoltage Comparator Input. Connect this pin to an external resistive divider to set the desired VIN overvoltage fault threshold. Input to an accurate, fast (1us) comparator with a 0.5V rising threshold and 25mV of (See Datasheet)", 3 UV (in) "Undervoltage Comparator Input. Connect this pin to an external resistive divider to set the desired VIN undervoltage fault threshold. Input to an accurate, fast (1us) comparator with a 0.5V falling threshold and 25mV of (See Datasheet)", 4 VIN (power) "Power Supply Input. Maximum protection range: -40V to 60V. Operating range: 2.5V to 34V.", 5 GATE (out) "Gate Drive Output for External N-channel MOSFETs. An internal charge pump provides 20uA of pull-up current and up to 9.8V of enhancement to the gate of an external N-channel MOSFET When turned off, GATE is pulled just below (See Datasheet)", 6 VOUT (in) "Output Voltage Sense Input. This pin senses the voltage at the output side of the external N-channel MOSFET. The GATE charge pump voltage is referenced to VOUT. It is used as the charge pump input when VOUT is greater than (See Datasheet)", 7 ~{FAULT} (oc) "Fault Indication Output. This high voltage open drain output is pulled low if UV is below its monitor threshold, if OV is above its monitor threshold, if S\H\D\N\ is low, or if VIN has not risen above VIN(UVLO).", 8 ~{SHDN} (in) "Shutdown Control Input. S\H\D\N\ high enables the GATE charge pump which in turn enhances the gate of an external N-channel MOSFET. A low on S\H\D\N\ generates a pull down on the GATE output with a 90uA current sink and (See Datasheet)", 9 EP (power) "Connect to device ground"

## LTC4365HDDB#TRMPBF
designator U?
UV, OV and Reverse Supply Protection Controller, 2.5 to 34 V Vin, 8-pin SON (DDB-8), -40 to 125 degC, Pb-Free, Mini Tape and Reel; Manufacturer: Linear Technology; PartNumber: LTC4365HDDB#TRMPBF; Active Limiting: no; Circuit Breakers(#): 1; Extended Temp: C, I, H; Fault: yes; PackageVersion: Rev. B, 06/2010; PackageReference: DDB-8; PackageDescription: 8-Pin Plastic DFN, Body 3 x 2 mm, Pitch 0.5 mm; Supplier 1: Digi-Key; Supplier Part Number 1: LTC4365HDDB#TRMPBFTR-ND; Supplier 2: Digi-Key; Supplier Part Number 2: LTC4365HDDB#TRMPBFCT-ND; Supplier 3: Digi-Key; Supplier Part Number 3: LTC4365HDDB#TRMPBFDKR-ND; Supplier 4: Newark; Supplier Part Number 4: 13T4030; Fast Comparator: no; Foldback: no; Packing: Mini Tape and Reel; Power Good: no; Reset: no; RoHS: TRUE; Vin Range: 2.5 to 34 V; Mounting Technology: Surface Mount; Code_JEDEC: MO-229; ComponentLink1Description: Manufacturer URL; ComponentLink1URL: http://www.linear.com/; ComponentLink2Description: Datasheet; ComponentLink2URL: http://cds.linear.com/docs/en/datasheet/4365f.pdf; ComponentLink3Description: Package Specification; ComponentLink3URL: http://cds.linear.com/docs/en/packaging/DFN_8_05-08-1702.pdf
footprint LT-DDB-8_V (SON, 8-Leads, Body 3x2mm, Pitch 0.5mm, Thermal Pad 2.2x0.61mm)
pins: 1 GND (power) "Device Ground.", 2 OV (in) "Overvoltage Comparator Input. Connect this pin to an external resistive divider to set the desired VIN overvoltage fault threshold. Input to an accurate, fast (1us) comparator with a 0.5V rising threshold and 25mV of (See Datasheet)", 3 UV (in) "Undervoltage Comparator Input. Connect this pin to an external resistive divider to set the desired VIN undervoltage fault threshold. Input to an accurate, fast (1us) comparator with a 0.5V falling threshold and 25mV of (See Datasheet)", 4 VIN (power) "Power Supply Input. Maximum protection range: -40V to 60V. Operating range: 2.5V to 34V.", 5 GATE (out) "Gate Drive Output for External N-channel MOSFETs. An internal charge pump provides 20uA of pull-up current and up to 9.8V of enhancement to the gate of an external N-channel MOSFET When turned off, GATE is pulled just below (See Datasheet)", 6 VOUT (in) "Output Voltage Sense Input. This pin senses the voltage at the output side of the external N-channel MOSFET. The GATE charge pump voltage is referenced to VOUT. It is used as the charge pump input when VOUT is greater than (See Datasheet)", 7 ~{FAULT} (oc) "Fault Indication Output. This high voltage open drain output is pulled low if UV is below its monitor threshold, if OV is above its monitor threshold, if S\H\D\N\ is low, or if VIN has not risen above VIN(UVLO).", 8 ~{SHDN} (in) "Shutdown Control Input. S\H\D\N\ high enables the GATE charge pump which in turn enhances the gate of an external N-channel MOSFET. A low on S\H\D\N\ generates a pull down on the GATE output with a 90uA current sink and (See Datasheet)", 9 EP (power) "Connect to device ground"

## LTC4365HDDB#TRPBF
designator U?
UV, OV and Reverse Supply Protection Controller, 2.5 to 34 V Vin, 8-pin SON (DDB-8), -40 to 125 degC, Pb-Free, Tape and Reel; Manufacturer: Linear Technology; PartNumber: LTC4365HDDB#TRPBF; Active Limiting: no; Circuit Breakers(#): 1; Extended Temp: C, I, H; Fault: yes; PackageVersion: Rev. B, 06/2010; PackageReference: DDB-8; PackageDescription: 8-Pin Plastic DFN, Body 3 x 2 mm, Pitch 0.5 mm; Supplier 1: Digi-Key; Supplier Part Number 1: LTC4365HDDB#TRPBF-ND; Supplier 2: Newark; Supplier Part Number 2: 13T4031; Fast Comparator: no; Foldback: no; Packing: Tape and Reel; Power Good: no; Reset: no; RoHS: TRUE; Vin Range: 2.5 to 34 V; Mounting Technology: Surface Mount; Code_JEDEC: MO-229; ComponentLink1Description: Manufacturer URL; ComponentLink1URL: http://www.linear.com/; ComponentLink2Description: Datasheet; ComponentLink2URL: http://cds.linear.com/docs/en/datasheet/4365f.pdf; ComponentLink3Description: Package Specification; ComponentLink3URL: http://cds.linear.com/docs/en/packaging/DFN_8_05-08-1702.pdf
footprint LT-DDB-8_V (SON, 8-Leads, Body 3x2mm, Pitch 0.5mm, Thermal Pad 2.2x0.61mm)
pins: 1 GND (power) "Device Ground.", 2 OV (in) "Overvoltage Comparator Input. Connect this pin to an external resistive divider to set the desired VIN overvoltage fault threshold. Input to an accurate, fast (1us) comparator with a 0.5V rising threshold and 25mV of (See Datasheet)", 3 UV (in) "Undervoltage Comparator Input. Connect this pin to an external resistive divider to set the desired VIN undervoltage fault threshold. Input to an accurate, fast (1us) comparator with a 0.5V falling threshold and 25mV of (See Datasheet)", 4 VIN (power) "Power Supply Input. Maximum protection range: -40V to 60V. Operating range: 2.5V to 34V.", 5 GATE (out) "Gate Drive Output for External N-channel MOSFETs. An internal charge pump provides 20uA of pull-up current and up to 9.8V of enhancement to the gate of an external N-channel MOSFET When turned off, GATE is pulled just below (See Datasheet)", 6 VOUT (in) "Output Voltage Sense Input. This pin senses the voltage at the output side of the external N-channel MOSFET. The GATE charge pump voltage is referenced to VOUT. It is used as the charge pump input when VOUT is greater than (See Datasheet)", 7 ~{FAULT} (oc) "Fault Indication Output. This high voltage open drain output is pulled low if UV is below its monitor threshold, if OV is above its monitor threshold, if S\H\D\N\ is low, or if VIN has not risen above VIN(UVLO).", 8 ~{SHDN} (in) "Shutdown Control Input. S\H\D\N\ high enables the GATE charge pump which in turn enhances the gate of an external N-channel MOSFET. A low on S\H\D\N\ generates a pull down on the GATE output with a 90uA current sink and (See Datasheet)", 9 EP (power) "Connect to device ground"

## LTC4365HTS8#PBF
designator U?
UV, OV and Reverse Supply Protection Controller, 2.5 to 34 V Vin, 8-pin SOT23 (TS8-8), -40 to 125 degC, Pb-Free; Manufacturer: Linear Technology; PartNumber: LTC4365HTS8#PBF; Active Limiting: no; Circuit Breakers(#): 1; Extended Temp: C, I, H; Fault: yes; PackageVersion: Rev. A, 08/2010; PackageReference: TS8-8; PackageDescription: 8-Pin Plastic TSOT-23, Body 2.9 x 1.63 mm, Pitch 0.65 mm; Supplier 1: Farnell; Supplier Part Number 1: 2308158; Supplier 2: Newark; Supplier Part Number 2: 78T3386; Fast Comparator: no; Foldback: no; Power Good: no; Reset: no; RoHS: TRUE; Vin Range: 2.5 to 34 V; Mounting Technology: Surface Mount; Code_JEDEC: MO-193; ComponentLink1Description: Manufacturer URL; ComponentLink1URL: http://www.linear.com/; ComponentLink2Description: Datasheet; ComponentLink2URL: http://cds.linear.com/docs/en/datasheet/4365f.pdf; ComponentLink3Description: Package Specification; ComponentLink3URL: http://cds.linear.com/docs/en/packaging/SOT_8_05-08-1637.pdf
footprint LT-TS8-8-TSOT-23_V (SOT23, 8-Leads, Body 2.9x1.75mm, Pitch 0.65mm)
pins: 1 VIN (power) "Power Supply Input. Maximum protection range: -40V to 60V. Operating range: 2.5V to 34V.", 2 UV (in) "Undervoltage Comparator Input. Connect this pin to an external resistive divider to set the desired VIN undervoltage fault threshold. Input to an accurate, fast (1us) comparator with a 0.5V falling threshold and 25mV of (See Datasheet)", 3 OV (in) "Overvoltage Comparator Input. Connect this pin to an external resistive divider to set the desired VIN overvoltage fault threshold. Input to an accurate, fast (1us) comparator with a 0.5V rising threshold and 25mV of (See Datasheet)", 4 GND (power) "Device Ground", 5 ~{SHDN} (in) "Shutdown Control Input. S\H\D\N\ high enables the GATE charge pump which in turn enhances the gate of an external N-channel MOSFET. A low on S\H\D\N\ generates a pull down on the GATE output with a 90uA current sink and (See Datasheet)", 6 ~{FAULT} (oc) "Fault Indication Output. This high voltage open drain output is pulled low if UV is below its monitor threshold, if OV is above its monitor threshold, if S\H\D\N\ is low, or if VIN has not risen above VIN(UVLO).", 7 VOUT (in) "Output Voltage Sense Input. This pin senses the voltage at the output side of the external N-channel MOSFET. The GATE charge pump voltage is referenced to VOUT. It is used as the charge pump input when VOUT is greater than (See Datasheet)", 8 GATE (out) "Gate Drive Output for External N-channel MOSFETs. An internal charge pump provides 20uA of pull-up current and up to 9.8V of enhancement to the gate of an external N-channel MOSFET When turned off, GATE is pulled just below (See Datasheet)"

## LTC4365HTS8#TRMPBF
designator U?
UV, OV and Reverse Supply Protection Controller, 2.5 to 34 V Vin, 8-pin SOT23 (TS8-8), -40 to 125 degC, Pb-Free, Mini Tape and Reel; Manufacturer: Linear Technology; PartNumber: LTC4365HTS8#TRMPBF; Active Limiting: no; Circuit Breakers(#): 1; Extended Temp: C, I, H; Fault: yes; PackageVersion: Rev. A, 08/2010; PackageReference: TS8-8; PackageDescription: 8-Pin Plastic TSOT-23, Body 2.9 x 1.63 mm, Pitch 0.65 mm; Supplier 1: Digi-Key; Supplier Part Number 1: LTC4365HTS8#TRMPBFTR-ND; Supplier 2: Digi-Key; Supplier Part Number 2: LTC4365HTS8#TRMPBFCT-ND; Supplier 3: Digi-Key; Supplier Part Number 3: LTC4365HTS8#TRMPBFDKR-ND; Supplier 4: Newark; Supplier Part Number 4: 12T9750; Fast Comparator: no; Foldback: no; Packing: Mini Tape and Reel; Power Good: no; Reset: no; RoHS: TRUE; Vin Range: 2.5 to 34 V; Mounting Technology: Surface Mount; Code_JEDEC: MO-193; ComponentLink1Description: Manufacturer URL; ComponentLink1URL: http://www.linear.com/; ComponentLink2Description: Datasheet; ComponentLink2URL: http://cds.linear.com/docs/en/datasheet/4365f.pdf; ComponentLink3Description: Package Specification; ComponentLink3URL: http://cds.linear.com/docs/en/packaging/SOT_8_05-08-1637.pdf
footprint LT-TS8-8-TSOT-23_V (SOT23, 8-Leads, Body 2.9x1.75mm, Pitch 0.65mm)
pins: 1 VIN (power) "Power Supply Input. Maximum protection range: -40V to 60V. Operating range: 2.5V to 34V.", 2 UV (in) "Undervoltage Comparator Input. Connect this pin to an external resistive divider to set the desired VIN undervoltage fault threshold. Input to an accurate, fast (1us) comparator with a 0.5V falling threshold and 25mV of (See Datasheet)", 3 OV (in) "Overvoltage Comparator Input. Connect this pin to an external resistive divider to set the desired VIN overvoltage fault threshold. Input to an accurate, fast (1us) comparator with a 0.5V rising threshold and 25mV of (See Datasheet)", 4 GND (power) "Device Ground", 5 ~{SHDN} (in) "Shutdown Control Input. S\H\D\N\ high enables the GATE charge pump which in turn enhances the gate of an external N-channel MOSFET. A low on S\H\D\N\ generates a pull down on the GATE output with a 90uA current sink and (See Datasheet)", 6 ~{FAULT} (oc) "Fault Indication Output. This high voltage open drain output is pulled low if UV is below its monitor threshold, if OV is above its monitor threshold, if S\H\D\N\ is low, or if VIN has not risen above VIN(UVLO).", 7 VOUT (in) "Output Voltage Sense Input. This pin senses the voltage at the output side of the external N-channel MOSFET. The GATE charge pump voltage is referenced to VOUT. It is used as the charge pump input when VOUT is greater than (See Datasheet)", 8 GATE (out) "Gate Drive Output for External N-channel MOSFETs. An internal charge pump provides 20uA of pull-up current and up to 9.8V of enhancement to the gate of an external N-channel MOSFET When turned off, GATE is pulled just below (See Datasheet)"

## LTC4365HTS8#TRPBF
designator U?
UV, OV and Reverse Supply Protection Controller, 2.5 to 34 V Vin, 8-pin SOT23 (TS8-8), -40 to 125 degC, Pb-Free, Tape and Reel; Manufacturer: Linear Technology; PartNumber: LTC4365HTS8#TRPBF; Active Limiting: no; Circuit Breakers(#): 1; Extended Temp: C, I, H; Fault: yes; PackageVersion: Rev. A, 08/2010; PackageReference: TS8-8; PackageDescription: 8-Pin Plastic TSOT-23, Body 2.9 x 1.63 mm, Pitch 0.65 mm; Supplier 1: Digi-Key; Supplier Part Number 1: LTC4365HTS8#TRPBF-ND; Supplier 2: Newark; Supplier Part Number 2: 13T4032; Fast Comparator: no; Foldback: no; Packing: Tape and Reel; Power Good: no; Reset: no; RoHS: TRUE; Vin Range: 2.5 to 34 V; Mounting Technology: Surface Mount; Code_JEDEC: MO-193; ComponentLink1Description: Manufacturer URL; ComponentLink1URL: http://www.linear.com/; ComponentLink2Description: Datasheet; ComponentLink2URL: http://cds.linear.com/docs/en/datasheet/4365f.pdf; ComponentLink3Description: Package Specification; ComponentLink3URL: http://cds.linear.com/docs/en/packaging/SOT_8_05-08-1637.pdf
footprint LT-TS8-8-TSOT-23_V (SOT23, 8-Leads, Body 2.9x1.75mm, Pitch 0.65mm)
pins: 1 VIN (power) "Power Supply Input. Maximum protection range: -40V to 60V. Operating range: 2.5V to 34V.", 2 UV (in) "Undervoltage Comparator Input. Connect this pin to an external resistive divider to set the desired VIN undervoltage fault threshold. Input to an accurate, fast (1us) comparator with a 0.5V falling threshold and 25mV of (See Datasheet)", 3 OV (in) "Overvoltage Comparator Input. Connect this pin to an external resistive divider to set the desired VIN overvoltage fault threshold. Input to an accurate, fast (1us) comparator with a 0.5V rising threshold and 25mV of (See Datasheet)", 4 GND (power) "Device Ground", 5 ~{SHDN} (in) "Shutdown Control Input. S\H\D\N\ high enables the GATE charge pump which in turn enhances the gate of an external N-channel MOSFET. A low on S\H\D\N\ generates a pull down on the GATE output with a 90uA current sink and (See Datasheet)", 6 ~{FAULT} (oc) "Fault Indication Output. This high voltage open drain output is pulled low if UV is below its monitor threshold, if OV is above its monitor threshold, if S\H\D\N\ is low, or if VIN has not risen above VIN(UVLO).", 7 VOUT (in) "Output Voltage Sense Input. This pin senses the voltage at the output side of the external N-channel MOSFET. The GATE charge pump voltage is referenced to VOUT. It is used as the charge pump input when VOUT is greater than (See Datasheet)", 8 GATE (out) "Gate Drive Output for External N-channel MOSFETs. An internal charge pump provides 20uA of pull-up current and up to 9.8V of enhancement to the gate of an external N-channel MOSFET When turned off, GATE is pulled just below (See Datasheet)"